# EAGLE library part MK20DXXXXV (library Freescale)
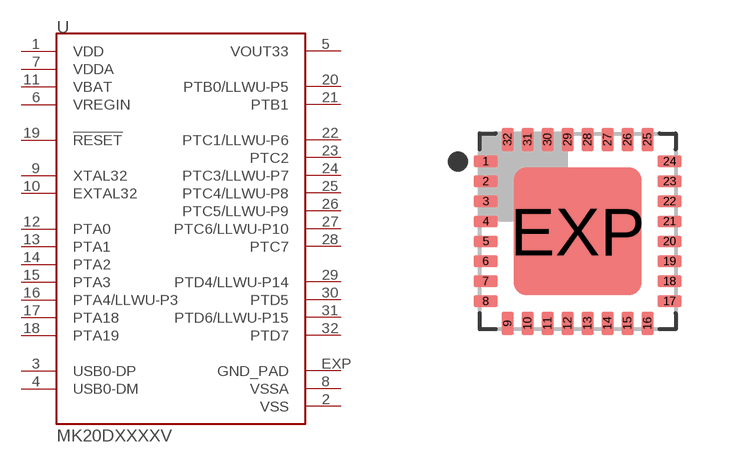
[diagram p1: symbol with the pads of QFN32; footprint QFN32]

Designator prefix -

## MK20DXXXXVFMX (PACKAGE: QFN32)  [QFN32]
1  VDD  pwr
2  VSS  pwr
3  USB0-DP
4  USB0-DM
5  VOUT33  pwr
6  VREGIN  pwr
7  VDDA  pwr
8  VSSA  pwr
9  XTAL32  oc
10  EXTAL32  oc
11  VBAT  pwr
12  PTA0
13  PTA1
14  PTA2
15  PTA3
16  PTA4/LLWU-P3
17  PTA18
18  PTA19
19  !RESET  in
20  PTB0/LLWU-P5
21  PTB1
22  PTC1/LLWU-P6
23  PTC2
24  PTC3/LLWU-P7
25  PTC4/LLWU-P8
26  PTC5/LLWU-P9
27  PTC6/LLWU-P10
28  PTC7
29  PTD4/LLWU-P14
30  PTD5
31  PTD6/LLWU-P15
32  PTD7
EXP  GND_PAD  pwr

## Footprint QFN32 (pad centres in mm)
QFN 32 5 x 5 mm Source: http://datasheets.maxim-ic.com/en/ds/MAX7042.pdf
smd 0.6 x 0.3: 1 -2.3,1.75; 2 -2.3,1.25; 3 -2.3,0.75; 4 -2.3,0.25; 5 -2.3,-0.25; 6 -2.3,-0.75; 7 -2.3,-1.25; 8 -2.3,-1.75; 17 2.3,-1.75; 18 2.3,-1.25; 19 2.3,-0.75; 20 2.3,-0.25; 21 2.3,0.25; 22 2.3,0.75; 23 2.3,1.25; 24 2.3,1.75
smd 0.3 x 0.6: 9 -1.75,-2.3; 10 -1.25,-2.3; 11 -0.75,-2.3; 12 -0.25,-2.3; 13 0.25,-2.3; 14 0.75,-2.3; 15 1.25,-2.3; 16 1.75,-2.3; 25 1.75,2.3; 26 1.25,2.3; 27 0.75,2.3; 28 0.25,2.3; 29 -0.25,2.3; 30 -0.75,2.3; 31 -1.25,2.3; 32 -1.75,2.3
smd 3.2 x 3.2: EXP 0,0